# EAGLE library part 74HC595PW (library lcd-buzzer)
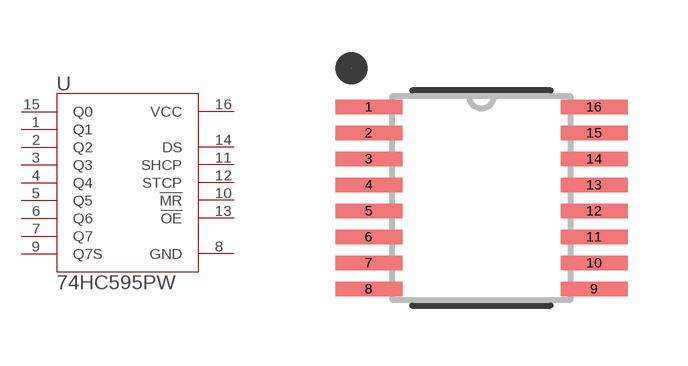
[diagram p0: symbol with the pads of SOT403-1; footprint SOT403-1]

Designator prefix U

## 74HC595PW  [SOT403-1]
1  Q1
2  Q2
3  Q3
4  Q4
5  Q5
6  Q6
7  Q7
8  GND
9  Q7S
10  !MR
11  SHCP
12  STCP
13  !OE
14  DS
15  Q0
16  VCC

## Footprint SOT403-1 (pad centres in mm)
smd 1.676 x 0.356: 1 -2.819,2.275; 2 -2.819,1.625; 3 -2.819,0.975; 4 -2.819,0.325; 5 -2.819,-0.325; 6 -2.819,-0.975; 7 -2.819,-1.625; 8 -2.819,-2.275; 9 2.819,-2.275; 10 2.819,-1.625; 11 2.819,-0.975; 12 2.819,-0.325; 13 2.819,0.325; 14 2.819,0.975; 15 2.819,1.625; 16 2.819,2.275